# Altium integrated library SRP4012TA.IntLib: 1 symbol
Pins are listed as number, name and electrical type; pins without a type are passive.

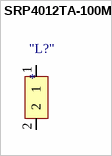
[diagram p0: symbol SRP4012TA-100M]

## SRP4012TA-100M
designator "L?"
Inductor
footprint Inductor
pins: 1, 2